# Altium footprint library SnapEDApcb.PcbLib: 1 footprints
Each footprint in its own frame and in the unit in brackets; x right, y up, seen from the top. Pads: shape width x height; smd on the part's side, far side on the other; paste and mask are expansions set on the pad; w line width, h text height; cw(c..) or ccw(c..) is an arc to the next point about the centre after c.
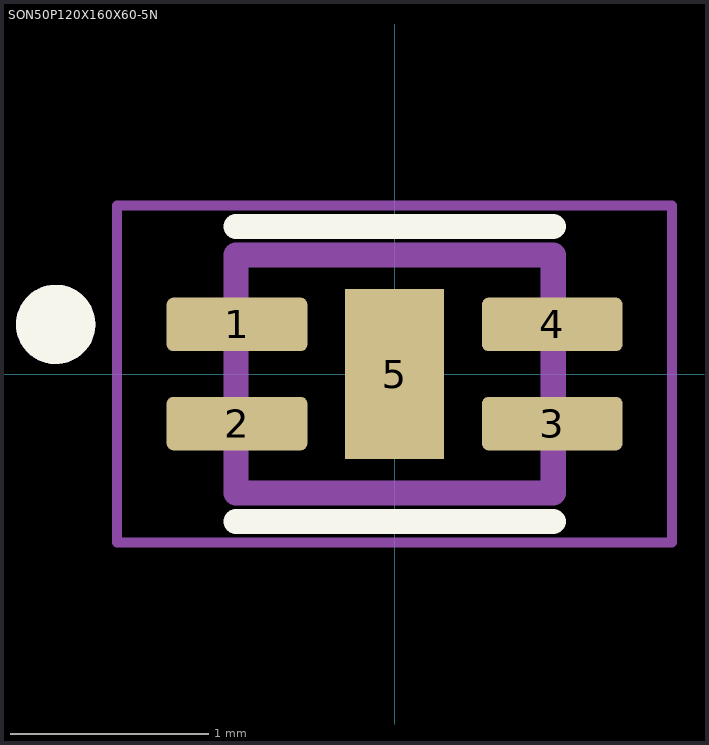
[diagram p0: the footprint, top view; thin cyan lines are the x and y axes]

## SON50P120X160X60-5N [mm]
pads (5):
  rrect25% 0.71x0.27 smd: 1(-0.795,0.25) 2(-0.795,-0.25) 3(0.795,-0.25) 4(0.795,0.25)
  rect 0.5x0.86 smd paste-1: 5(0,0)
Top Overlay:
  circle w0.2: c-1.71,0.25 r0.1
  lines w0.127: -0.8,-0.744 0.8,-0.744 ; -0.8,0.744 0.8,0.744
Top Paste:
  region: 0.16,-0.27 -0.16,-0.27 -0.16,0.27 0.16,0.27
Mechanical 13:
  circle w0.2: c-1.71,0.25 r0.1
  lines w0.127: -0.8,-0.6 0.8,-0.6 0.8,0.6 -0.8,0.6 -0.8,-0.6
Mechanical 15:
  lines w0.05: -1.4,-0.85 1.4,-0.85 1.4,0.85 -1.4,0.85 -1.4,-0.85